# Altium footprint library PCB方案验证板  12V5A 60Wascii.PcbLib: 29 footprints (part 2 of 2)
Each footprint in its own frame and in the unit in brackets; x right, y up, seen from the top. Pads: shape width x height; smd on the part's side, far side on the other; paste and mask are expansions set on the pad; w line width, h text height; cw(c..) or ccw(c..) is an arc to the next point about the centre after c.
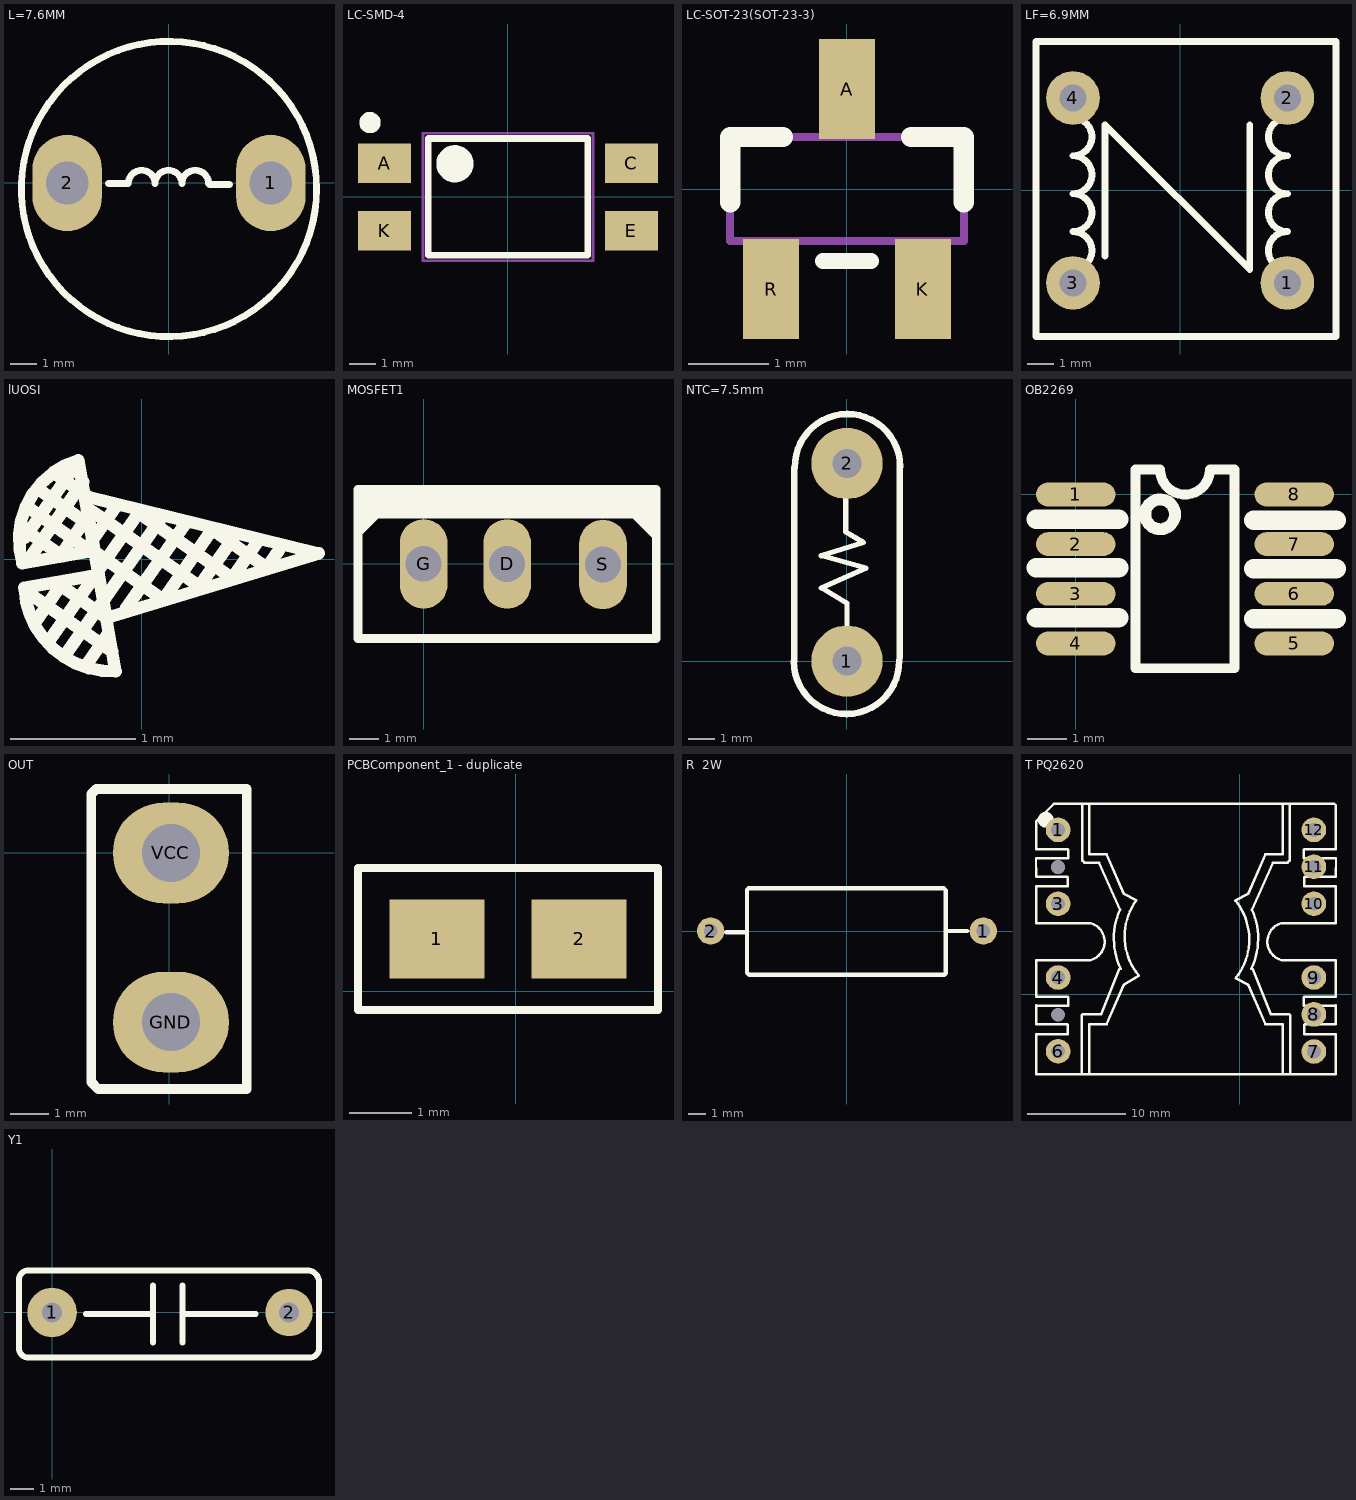
[diagram p1: the footprints below, top view; thin cyan lines are the x and y axes]

## L=7.6MM [mm]
pads (2):
  oval 2.6x3.6 hole 1.6: 1(3.8,0) 2(-3.8,0)
Top Overlay:
  circle w0.254: c0,-0.228 r5.512
  lines w0.254: -2.261,-0.028 -1.52,-0.028 cw(c-1.02,-0.028) -0.52,-0.028 cw(c-0.02,-0.028) 0.48,-0.028 cw(c0.98,-0.028) 1.48,-0.028 ; 1.51,-0.058 2.261,-0.058

## LC-SMD-4 [mm]
pads (4):
  rect 2x1.5 smd: A(-4.65,1.27) C(4.65,1.27) E(4.65,-1.27) K(-4.65,-1.27)
Top Overlay:
  circle w0.7: c-2,1.25 r0.35
  circle w0.4: c-5.2,2.8 r0.2
  lines w0.254: -3,-2.2 3,-2.2 3,2.2 -3,2.2 -3,-2.2
Mechanical 13:
  lines w0.1: -3.2,-2.4 -3.2,2.4 3.2,2.4 3.2,-2.4 -3.2,-2.4
3D body: height 3.9, standoff 0, extent -5.015,-2.416 5.015,2.416

## LC-SOT-23(SOT-23-3) [mm]
pads (3):
  rect 0.7x1.25 smd: A(0,1.25) K(0.95,-1.25) R(-0.95,-1.25)
Top Overlay:
  lines w0.2: -0.3,-0.9 0.3,-0.9
  lines w0.254: -1.46,-0.165 -1.46,0.65 -0.8,0.65 ; 1.46,-0.165 1.46,0.65 ; 0.8,0.65 1.46,0.65 ; 0.8,0.65 1.46,0.65 ; 0.8,0.65 1.46,0.65
Mechanical 13:
  lines w0.1: -1.46,-0.65 1.46,-0.65 ; -1.46,-0.65 -1.46,0.65 ; -1.46,-0.65 -1.46,0.65 ; -1.46,-0.65 1.46,-0.65 ; -1.46,-0.65 -1.46,0.65 ; -1.46,-0.65 1.46,-0.65 ; -1.46,0.65 1.46,0.65 ; -1.46,0.65 1.46,0.65 ; -1.46,0.65 1.46,0.65 ; 1.46,-0.65 1.46,0.65 ; 1.46,-0.65 1.46,0.65 ; 1.46,-0.65 1.46,0.65
3D body: height 1.3, standoff 0, extent -1.5,-1.5 1.5,1.5

## LF=6.9MM [mm]
pads (4):
  round 2 hole 1: 1(4,-3.45) 2(4,3.45) 3(-4,-3.45) 4(-4,3.45)
Top Overlay:
  lines w0.254: -4,-2.95 ccw(c-4,-2.243) -4,-1.536 ccw(c-4,-0.829) -4,-0.122 ccw(c-4,0.586) -4,1.293 ccw(c-4,2) -4,2.707 ; -2.8,-2.45 -2.8,2.45 2.6,-2.95 2.6,2.45 ; 4,-2.95 cw(c4,-2.243) 4,-1.536 cw(c4,-0.829) 4,-0.122 cw(c4,0.586) 4,1.293 cw(c4,2) 4,2.707 ; 5.815,-5.45 -5.38,-5.45 -5.38,5.558 5.815,5.558 5.815,-5.411

## lUOSI [mm]
Top Overlay:
  lines w0.1: -0.956,-0.032 cw(c-0.32,0.156) -0.508,0.792 -0.238,-0.74 -0.211,-0.895 ; -0.939,-0.23 ccw(c-0.239,-0.198) -0.207,-0.898 ; -0.249,-0.25 0.152,0.324 ; -0.454,0.504 1.422,0.045 -0.282,-0.471 -0.454,0.504
  lines w0.102: -0.956,-0.032 -0.41,0.064 ; -0.95,0.243 -0.638,0.024 -0.632,0.025 ; -0.939,-0.23 -0.41,-0.137 ; -0.937,0.172 -0.573,0.692 ; -0.936,-0.251 -0.238,-0.74 ; -0.921,-0.026 -0.469,0.619 ; -0.907,0.412 -0.41,0.064 ; -0.854,-0.507 -0.636,-0.194 ; -0.823,0.557 -0.427,0.28 ; -0.752,-0.671 -0.373,-0.13 ; -0.7,0.688 -0.43,0.498 ; -0.658,0.02 -0.408,0.377 ; -0.63,-0.227 -0.282,-0.471 ; -0.608,-0.763 0.152,0.324 ; -0.505,-0.317 -0.009,0.39 ; -0.432,-0.833 -0.272,-0.604 ; -0.432,0.097 -0.199,0.43 ; -0.411,0.392 -0.345,0.346 0.463,-0.22 0.754,0.196 ; -0.375,0.057 0.172,-0.326 0.55,0.215 ; -0.371,0.037 -0.41,0.064 ; -0.126,-0.396 0.34,0.269 ; -0.003,0.355 0.725,-0.155 0.9,0.095 0.944,0.157 ; 0.586,0.221 1.002,-0.07 1.104,0.076

## MOSFET1 [mm]
pads (3):
  oval 1.6x3 hole 1.2: D(2.799,-0.005) G(0,0) S(6.012,-0.02)
Top Overlay:
  rectangle: -2.201,1.514 7.857,2.495
  lines w0.2: -2.193,1.025 -2.193,2.33 7.742,2.33 7.742,0.96
  lines w0.254: -1.845,1.895 -2.193,1.547 -2.193,1.025 -1.324,1.895 -1.058,1.895 ; -1.693,1.666 -1.998,1.361 -2.099,1.361 -1.591,1.869 -1.591,1.895 ; 6.892,2.022 6.892,1.81 7.742,0.96 ; 7.324,1.946 7.324,1.728 7.742,1.311 7.742,1.285
  lines w0.3: 7.799,-2.005 7.799,2.495 -2.201,2.495 -2.201,-2.505 7.799,-2.505 7.799,-0.005

## NTC=7.5mm [mm]
pads (2):
  round 2.7 hole 1.1: 1(0,0) 2(0,7.5)
Top Overlay:
  lines w0.2: -0.05,7.375 -0.05,4.9 0.625,4.5 -0.975,4 0.725,3.525 -0.975,2.775 0,2.2 0,-0.025
  lines w0.25: -2.02,-0.01 ccw(c-0.019,-0.01) 1.981,0.025 ; -2.007,-0.025 -2.007,7.341 ; -1.981,7.341 cw(c0.019,7.376) 2.02,7.376 ; 2.007,0.152 2.007,7.518

## OB2269 [mil]
pads (8):
  oval 80x24 smd: 1(0,0) 2(0,-50) 3(0,-100) 4(0,-150) 5(220,-150) 6(220,-100) 7(220,-50) 8(220,0)
Top Overlay:
  circle w12: c85,-20 r15
  lines w10: 60,-175 160,-175 160,25 135,25 cw(c110,25) 85,25 60,25 60,-175
  lines w19.68: -39.61,-124 43.07,-124 ; -39.61,-74 43.07,-74 ; -39.61,-25 43.07,-25 ; 179.39,-125 262.07,-125 ; 179.39,-75 262.07,-75 ; 179.39,-26 262.07,-26

## OUT [mm]
pads (2):
  oval 3x2.6 hole 1.5: GND(0.051,-4.369) VCC(0.051,0)
Top Overlay:
  lines w0.254: -2.007,-5.918 -1.829,-6.096 2.007,-6.096 2.007,1.651 -1.88,1.651 -2.007,1.524 -2.007,-5.918

## PCBComponent_1 - duplicate [mil]
pads (2):
  rect 60x50 smd: 1(-50,33) 2(40,33)
Top Overlay:
  lines w5: -100,-12 90,-12 90,78 -100,78 -100,-12

## R  2W [mm]
pads (2):
  round 1.6 hole 0.8: 1(8,0) 2(-8,0)
Top Overlay:
  lines w0.254: -7.087,-0.076 -5.893,-0.076 ; 5.867,0 7.061,0 ; -5.867,-2.438 -5.74,-2.565 -0.065,-2.565 5.715,-2.565 5.802,-2.478 5.802,2.373 5.675,2.5 0,2.5 -5.78,2.5 -5.867,2.413 -5.867,-2.438

## T PQ2620 [mm]
pads (12):
  round 2.5 hole 1.4: 1(-18.461,16.724) 3(-18.461,9.223) 4(-18.461,1.723) 6(-18.461,-5.776) 7(7.539,-5.801) 8(7.539,-2.026) 9(7.539,1.724) 10(7.539,9.224) 11(7.539,12.973) 12(7.539,16.724)
  round 0 hole 1.4: 2(-18.461,12.949) 5(-18.461,-2.052)
Top Overlay:
  circle w0.254: c-18.461,12.914 r0.539
  circle w0.254: c-18.461,-2.098 r0.467
  circle w0.254: c7.488,-5.832 r0.467
  circle w0.254: c7.416,16.698 r0.539
  circle w1: c-19.714,17.753 r0.3
  lines w0.254: -20.699,7.497 -20.699,10.951 -20.673,10.977 -17.481,10.977 -17.481,11.916 -17.532,11.967 -20.699,11.967 -20.699,11.993 -20.707,13.821 ; -20.699,10.081 -20.696,7.249 -15.123,7.245 cw(c-15.698,5.37) -15.184,3.477 -17.481,3.477 -20.673,3.477 -20.699,3.451 -20.699,2.581 -20.699,-0.239 -17.481,-0.239 -17.43,-0.29 -17.43,-1.128 -20.673,-1.128 -20.699,-1.102 -20.699,-3.007 -20.699,-3.033 -17.532,-3.033 -17.481,-3.084 -17.481,-4.023 -20.673,-4.023 -20.699,-4.049 -20.699,-8.113 9.301,-8.113 ; -20.673,13.821 -20.707,13.821 ; -16.073,-8.113 -16.073,-2.149 -15.921,-1.996 -14.092,-1.996 -12.238,2.576 ; -15.997,19.387 -15.997,13.599 -15.794,13.396 -14.295,13.396 -12.162,8.621 ccw(c-5.647,5.687) -12.108,2.637 ; -15.286,-8.113 -15.286,-3.033 -13.533,-3.033 -11.781,0.98 -10.247,1.906 cw(c-5.454,5.905) -10.511,9.565 -11.781,10.225 -13.533,14.239 -15.286,14.239 -15.286,19.319 ; -0.433,9.547 cw(c-5.357,5.58) -0.411,1.64 0.859,0.98 2.611,-3.033 4.364,-3.033 4.364,-8.113 ; -0.411,9.565 0.859,10.226 2.611,14.239 4.364,14.239 4.364,19.319 ; 1.186,2.637 ccw(c-5.275,5.687) 1.24,8.621 3.373,13.396 4.872,13.396 5.075,13.599 5.075,19.387 ; 1.316,2.576 3.17,-1.996 4.999,-1.996 5.151,-2.149 5.151,-8.113 ; 8.946,-8.113 9.777,-8.113 9.777,-4.049 9.751,-4.023 6.559,-4.023 6.559,-3.084 6.61,-3.033 9.777,-3.033 9.777,-3.007 9.777,-1.102 9.751,-1.128 6.508,-1.128 6.508,-0.29 6.559,-0.239 9.777,-0.239 9.777,2.581 9.777,3.451 9.751,3.477 6.559,3.477 4.262,3.477 cw(c4.776,5.37) 4.201,7.245 9.774,7.249 9.777,10.081 ; 9.751,13.821 9.785,13.821 ; 9.777,7.497 9.777,10.951 9.751,10.977 6.559,10.977 6.559,11.916 6.61,11.967 9.777,11.967 9.777,11.993 9.785,13.821 ; -20.707,13.821 -17.43,13.821 -17.43,14.71 -17.481,14.761 -20.699,14.761 -20.699,17.581 -18.893,19.387 9.301,19.387 9.61,19.387 9.777,19.22 9.777,17.581 9.777,14.761 6.559,14.761 6.508,14.71 6.508,13.821 9.785,13.821

## Y1 [mm]
pads (2):
  round 2.1 hole 0.85: 1(0,0)
  round 2 hole 0.85: 2(10.033,0)
Top Overlay:
  lines w0.25: -1.025,-1.914 10.875,-1.914 ; -1,-1.914 cw(c-1,-1.514) -1.4,-1.514 -1.4,1.386 cw(c-1,1.386) -1,1.786 10.824,1.786 ; 1.424,-0.064 4.274,-0.064 ; 4.274,-1.264 4.274,1.136 ; 5.524,-1.264 5.524,1.136 ; 5.599,-0.064 8.624,-0.064 ; 10.8,1.786 cw(c10.8,1.286) 11.3,1.286 ; 10.9,-1.914 ccw(c10.9,-1.514) 11.3,-1.514 11.299,1.336